# Altium schematic symbol library AltiumDesigner.SchLib: 2 symbols
Pins are listed as number, name and electrical type; pins without a type are passive.

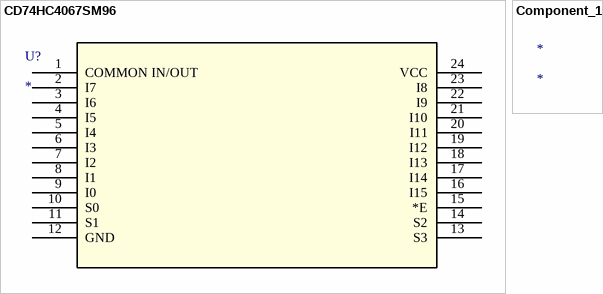
[diagram p0: symbols CD74HC4067SM96 to Component_1]

## CD74HC4067SM96
designator U?
Imported; Manufacturer_Part_Number: CD74HC4067SM96; Vendor: Texas Instruments; Section: Switches and Multiplexers; 3D_Library_Name: TI_Delivered_11-28-2011; C: Copyright (C) 2015 Accelerated Designs. All rights reserved; Family: Analogue Switch Multiplexer; Manufacturer_Name: Texas Instruments; Copyright: Copyright (C) 2015 Accelerated Designs. All rights reserved; RS_Part_Number: 6622570; Value: Value; Type: Type; RefDes: RefDes
footprint DB24
pins: 1 COMMON IN/OUT, 2 I7, 3 I6, 4 I5, 5 I4, 6 I3, 7 I2, 8 I1, 9 I0, 10 S0, 11 S1, 12 GND (power), 13 S3, 14 S2, 15 *E, 16 I15, 17 I14, 18 I13, 19 I12, 20 I11, 21 I10, 22 I9, 23 I8, 24 VCC (power)

## Component_1
designator *